# Altium footprint library Power_Connectors.PcbLib: 1 footprints
Each footprint in its own frame and in the unit in brackets; x right, y up, seen from the top. Pads: shape width x height; smd on the part's side, far side on the other; paste and mask are expansions set on the pad; w line width, h text height; cw(c..) or ccw(c..) is an arc to the next point about the centre after c.
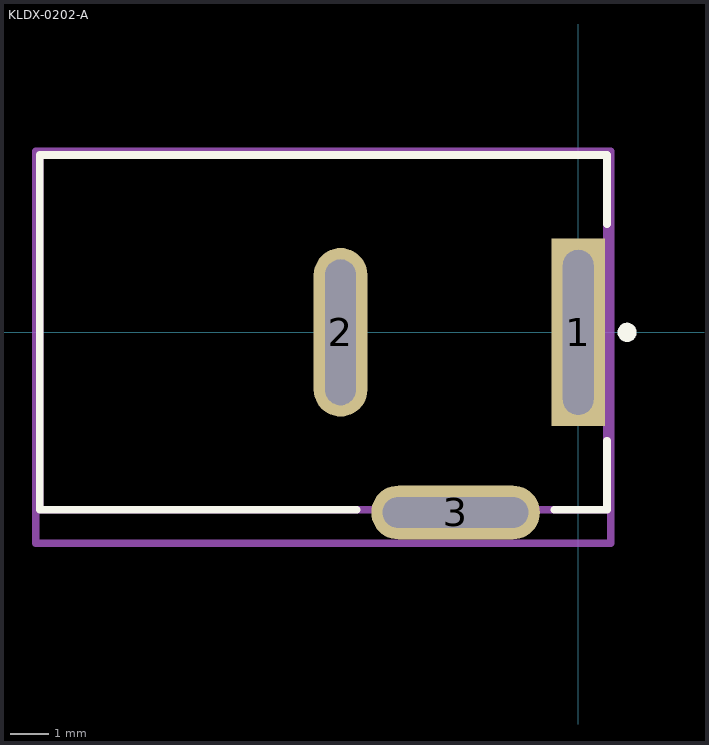
[diagram p0: the footprint, top view; thin cyan lines are the x and y axes]

## KLDX-0202-A [mm]
pads (3):
  rect 1.4x4.9 hole 4.3 slot 0.8 at 0 deg paste-1000 mask+0: 1(0,0)
  rrect100% 1.4x4.4 hole 3.8 slot 0.8 at 0 deg paste-1000 mask+0: 2(-6.2,0)
  rrect100% 4.4x1.4 hole 3.8 slot 0.8 at 90 deg paste-1000 mask+0: 3(-3.2,-4.7)
Top Overlay:
  circle w0.25: c1.275,0 r0.125
  lines w0.2: -5.775,-4.625 -14.05,-4.625 -14.05,4.625 0.75,4.625 0.75,2.825 ; -0.625,-4.625 0.75,-4.625 0.75,-2.825
Top Assembly:
  lines w0.2: -14.15,-5.5 -14.15,4.725 0.85,4.725 0.85,-5.5 -14.15,-5.5
Top Component Center:
  lines w0.1: -0.5,0 0.5,0 ; 0,-0.5 0,0.5
Top Component Outline:
  lines w0.2: -14.05,-4.625 0.75,-4.625 0.75,4.625 -14.05,4.625 -14.05,-4.625
Top Courtyard:
  lines w0.1: -14.15,-5.5 0.85,-5.5 0.85,4.725 -14.15,4.725 -14.15,-5.5
Top Designator:
  text ".Designator" at -13.818,-0.508 h1.52
3D body "Conn_Kycon_KLDX-0202-A_eec.STEP": height 0.25, standoff 0, extent -14.15,-5.5 0.85,4.725